# Altium integrated library Driver.IntLib: 2 symbols
Pins are listed as number, name and electrical type; pins without a type are passive.

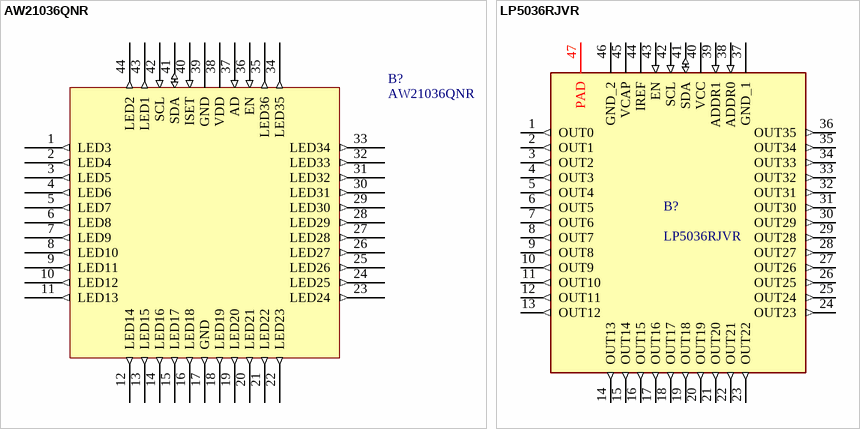
[diagram p0: symbols AW21036QNR to LP5036RJVR]

## AW21036QNR
designator B?
AWINIC(艾为) AW21036QNR 36 通道 8位 I2C 恒流 RGB LED 驱动器; 封装: QFN-44; 类别: LED驱动; 子类别: PWM驱动; 工作电压: 2.7V~5.5V; 开关频率: 400kHz; 通道数: 36; 输出电压: 2.4V~5.5V; 输出电流: 20mA; 制造商: AWINIC(艾为)
footprint AWINIC-QFN-44 (AWINIC(艾为) QFN-44 推荐焊盘)
pins: 1 LED3 (out), 2 LED4 (out), 3 LED5 (out), 4 LED6 (out), 5 LED7 (out), 6 LED8 (out), 7 LED9 (out), 8 LED10 (out), 9 LED11 (out), 10 LED12 (out), 11 LED13 (out), 12 LED14 (out), 13 LED15 (out), 14 LED16 (out), 15 LED17 (out), 16 LED18 (out), 17 GND (out), 18 LED19 (out), 19 LED20 (out), 20 LED21 (out), 21 LED22 (out), 22 LED23 (out), 23 LED24 (out), 24 LED25 (out), 25 LED26 (out), 26 LED27 (out), 27 LED28 (out), 28 LED29 (out), 29 LED30 (out), 30 LED31 (out), 31 LED32 (out), 32 LED33 (out), 33 LED34 (out), 34 LED35 (out), 35 LED36 (out), 36 EN (in), 37 AD (in), 38 VDD, 39 GND, 40 ISET (in), 41 SDA (io), 42 SCL (in), 43 LED1 (out), 44 LED2 (out)

## LP5036RJVR
designator B?
TI(德州仪器) LP5036 36 通道 I2C 恒流 RGB LED 驱动器; 制造商: TI()德州仪器); 封装: VQFN-46; 类别: LED驱动; 子类别: PWM驱动; 工作电压: 2.7V~5.5V; 开关频率: 29kHz; 通道数: 36; 输出电压: 0V~5.5V; 输出电流: 35mA
footprint TI-RJV0046 (德州仪器的VQFN-46的推荐焊盘)
pins: 1 OUT0 (out), 2 OUT1 (out), 3 OUT2 (out), 4 OUT3 (out), 5 OUT4 (out), 6 OUT5 (out), 7 OUT6 (out), 8 OUT7 (out), 9 OUT8 (out), 10 OUT9 (out), 11 OUT10 (out), 12 OUT11 (out), 13 OUT12 (out), 14 OUT13 (out), 15 OUT14 (out), 16 OUT15 (out), 17 OUT16 (out), 18 OUT17 (out), 19 OUT18 (out), 20 OUT19 (out), 21 OUT20 (out), 22 OUT21 (out), 23 OUT22 (out), 24 OUT23 (out), 25 OUT24 (out), 26 OUT25 (out), 27 OUT26 (out), 28 OUT27 (out), 29 OUT28 (out), 30 OUT29 (out), 31 OUT30 (out), 32 OUT31 (out), 33 OUT32 (out), 34 OUT33 (out), 35 OUT34 (out), 36 OUT35 (out), 37 GND_1, 38 ADDR0 (in), 39 ADDR1 (in), 40 VCC, 41 SDA (io), 42 SCL (in), 43 EN (in), 44 IREF, 45 VCAP, 46 GND_2, 47 PAD